# Altium footprint library Keebs.PcbLib: 219 footprints (part 5 of 14)
Each footprint in its own frame and in the unit in brackets; x right, y up, seen from the top. Pads: shape width x height; smd on the part's side, far side on the other; paste and mask are expansions set on the pad; w line width, h text height; cw(c..) or ccw(c..) is an arc to the next point about the centre after c.
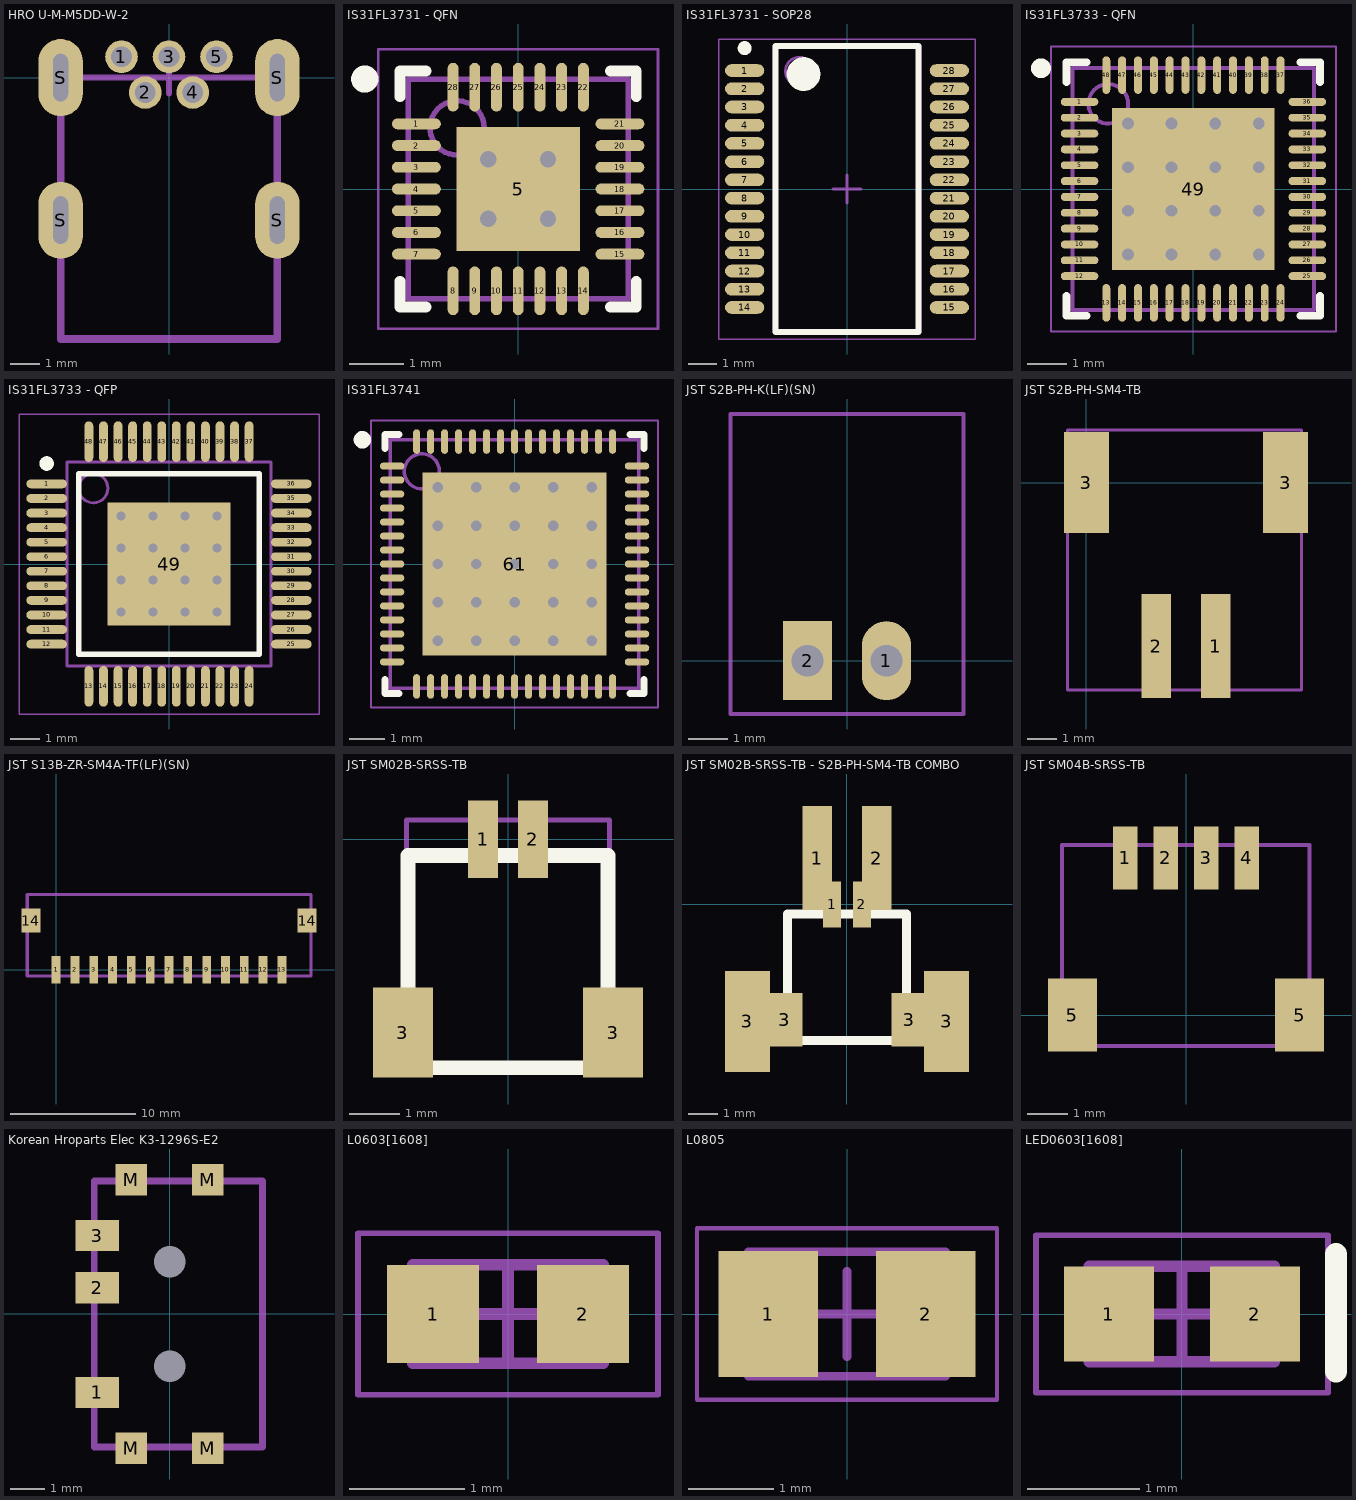
[diagram p4: the footprints below, top view; thin cyan lines are the x and y axes]

## HRO U-M-M5DD-W-2 [mm]
pads (9):
  round 1.1 hole 0.7: 1(-1.6,0.7) 2(-0.8,-0.5) 3(0,0.7) 4(0.8,-0.5) 5(1.6,0.7)
  oval 1.5x2.6 hole 0.5 slot 1.6 at 90 deg: S(-3.65,-4.8) S(-3.65,0) S(3.65,-4.8) S(3.65,0)
Mechanical 13:
  lines w0.2: -3.65,-8.8 3.65,-8.8 3.65,0 -3.65,0 -3.65,-8.8
  text ".Designator" at 1.905,-3.556 h0.35
Mechanical 15:
  lines w0.2: -0.533,0 0,0 ; 0,0.533 0,0 ; 0.533,0 0,0 ; 0,0 0,-0.533 0,0
  lines w0.254: -3.65,0 -3.65,-8.8 3.65,-8.8 3.65,0

## IS31FL3731 - QFN [mm]
height 0.8
pads (29):
  oval 0.9x0.2 smd: 1(-1.875,1.2) 2(-1.875,0.8) 3(-1.875,0.4) 4(-1.875,0) 5(-1.875,-0.4) 6(-1.875,-0.8) 7(-1.875,-1.2) 15(1.875,-1.2) 16(1.875,-0.8) 17(1.875,-0.4) 18(1.875,0) 19(1.875,0.4) 20(1.875,0.8) 21(1.875,1.2)
  rect 2.28x2.28 smd: 5(0,0)
  oval 0.2x0.9 smd: 8(-1.2,-1.875) 9(-0.8,-1.875) 10(-0.4,-1.875) 11(0,-1.875) 12(0.4,-1.875) 13(0.8,-1.875) 14(1.2,-1.875) 22(1.2,1.875) 23(0.8,1.875) 24(0.4,1.875) 25(0,1.875) 26(-0.4,1.875) 27(-0.8,1.875) 28(-1.2,1.875)
via 0.55,-0.55 diameter 0.6 hole 0.3
via -0.55,-0.55 diameter 0.6 hole 0.3
via 0.55,0.55 diameter 0.6 hole 0.3
via -0.55,0.55 diameter 0.6 hole 0.3
Top Overlay:
  circle w0.25: c-2.825,2.025 r0.125
  lines w0.2: -2.175,-1.7 -2.175,-2.175 -1.7,-2.175 ; -2.175,1.7 -2.175,2.175 -1.7,2.175 ; 1.7,-2.175 2.175,-2.175 2.175,-1.7 ; 1.7,2.175 2.175,2.175 2.175,1.7
Mechanical 13:
  circle w0.1: c-1.125,1.125 r0.5
  lines w0.1: -2.025,-2.025 2.025,-2.025 2.025,2.025 -2.025,2.025 -2.025,-2.025
  text ".Designator" at -1.905,-0.254 h0.5
Mechanical 15:
  lines w0.05: -2.575,-2.575 2.575,-2.575 2.575,2.575 -2.575,2.575 -2.575,-2.575
  lines w0.1: -0.5,0 0.5,0 ; 0,-0.5 0,0.5
3D body "IS31FL3731 - QFN.step": height 0.8, standoff 0, extent -2.026,-2.026 2.026,2.026

## IS31FL3731 - SOP28 [mm] "IS31FL3731 - SOP28"
height 1.8
pads (28):
  oval 1.4x0.45 smd: 1(-3.65,4.225) 2(-3.65,3.575) 3(-3.65,2.925) 4(-3.65,2.275) 5(-3.65,1.625) 6(-3.65,0.975) 7(-3.65,0.325) 8(-3.65,-0.325) 9(-3.65,-0.975) 10(-3.65,-1.625) 11(-3.65,-2.275) 12(-3.65,-2.925) 13(-3.65,-3.575) 14(-3.65,-4.225) 15(3.65,-4.225) 16(3.65,-3.575) 17(3.65,-2.925) 18(3.65,-2.275) 19(3.65,-1.625) 20(3.65,-0.975) 21(3.65,-0.325) 22(3.65,0.325) 23(3.65,0.975) 24(3.65,1.625) 25(3.65,2.275) 26(3.65,2.925) 27(3.65,3.575) 28(3.65,4.225)
Top Overlay:
  circle w0.25: c-3.65,5.025 r0.125
  circle w0.6: c-1.55,4.1 r0.3
  lines w0.2: -2.55,-5.1 -2.55,5.1 2.55,5.1 2.55,-5.1 -2.55,-5.1
Mechanical 13:
  circle w0.1: c-1.7,4.2 r0.5
  lines w0.1: -2.6,-5.1 -2.6,5.1 2.6,5.1 2.6,-5.1 -2.6,-5.1
  text ".Designator" at -0.254,2.159 h0.5
Mechanical 15:
  lines w0.05: -4.575,-5.35 -4.575,5.35 4.575,5.35 4.575,-5.35 -4.575,-5.35
  lines w0.1: -0.5,0 0.5,0 ; 0,-0.5 0,0.5
3D body "IS31FL3731 - SOP28.step": height 1.8, standoff 0, extent -3.9,-5.1 3.9,5.1

## IS31FL3733 - QFN [mm]
height 0.8
pads (49):
  oval 0.95x0.2 smd: 1(-2.875,2.2) 2(-2.875,1.8) 3(-2.875,1.4) 4(-2.875,1) 5(-2.875,0.6) 6(-2.875,0.2) 7(-2.875,-0.2) 8(-2.875,-0.6) 9(-2.875,-1) 10(-2.875,-1.4) 11(-2.875,-1.8) 12(-2.875,-2.2) 25(2.875,-2.2) 26(2.875,-1.8) 27(2.875,-1.4) 28(2.875,-1) 29(2.875,-0.6) 30(2.875,-0.2) 31(2.875,0.2) 32(2.875,0.6) 33(2.875,1) 34(2.875,1.4) 35(2.875,1.8) 36(2.875,2.2)
  oval 0.2x0.95 smd: 13(-2.2,-2.875) 14(-1.8,-2.875) 15(-1.4,-2.875) 16(-1,-2.875) 17(-0.6,-2.875) 18(-0.2,-2.875) 19(0.2,-2.875) 20(0.6,-2.875) 21(1,-2.875) 22(1.4,-2.875) 23(1.8,-2.875) 24(2.2,-2.875) 37(2.2,2.875) 38(1.8,2.875) 39(1.4,2.875) 40(1,2.875) 41(0.6,2.875) 42(0.2,2.875) 43(-0.2,2.875) 44(-0.6,2.875) 45(-1,2.875) 46(-1.4,2.875) 47(-1.8,2.875) 48(-2.2,2.875)
  rect 4.1x4.1 smd: 49(0,0)
via -1.65,1.65 diameter 0.6 hole 0.3
via -0.55,1.65 diameter 0.6 hole 0.3
via 0.55,1.65 diameter 0.6 hole 0.3
via 1.65,1.65 diameter 0.6 hole 0.3
via -1.65,0.55 diameter 0.6 hole 0.3
via -0.55,0.55 diameter 0.6 hole 0.3
via 0.55,0.55 diameter 0.6 hole 0.3
via 1.65,0.55 diameter 0.6 hole 0.3
via -1.65,-0.55 diameter 0.6 hole 0.3
via -0.55,-0.55 diameter 0.6 hole 0.3
via 0.55,-0.55 diameter 0.6 hole 0.3
via 1.65,-0.55 diameter 0.6 hole 0.3
via -1.65,-1.65 diameter 0.6 hole 0.3
via -0.55,-1.65 diameter 0.6 hole 0.3
via 0.55,-1.65 diameter 0.6 hole 0.3
via 1.65,-1.65 diameter 0.6 hole 0.3
Top Overlay:
  circle w0.25: c-3.85,3.05 r0.125
  lines w0.2: -3.2,-2.7 -3.2,-3.2 -2.7,-3.2 ; -3.2,2.7 -3.2,3.2 -2.7,3.2 ; 2.7,-3.2 3.2,-3.2 3.2,-2.7 ; 2.7,3.2 3.2,3.2 3.2,2.7
Mechanical 13:
  circle w0.1: c-2.15,2.15 r0.5
  lines w0.1: -3.05,-3.05 -3.05,3.05 3.05,3.05 3.05,-3.05 -3.05,-3.05
  text ".Designator" at -2.286,-0.254 h0.5
Mechanical 15:
  lines w0.05: -3.6,-3.6 -3.6,3.6 3.6,3.6 3.6,-3.6 -3.6,-3.6
  lines w0.1: -0.5,0 0.5,0 ; 0,-0.5 0,0.5
3D body "IS31FL3733 - QFN.step": height 0.8, standoff 0, extent -3.051,-3.051 3.051,3.051

## IS31FL3733 - QFP [mm]
height 1.2
pads (49):
  oval 1.4x0.3 smd: 1(-4.2,2.75) 2(-4.2,2.25) 3(-4.2,1.75) 4(-4.2,1.25) 5(-4.2,0.75) 6(-4.2,0.25) 7(-4.2,-0.25) 8(-4.2,-0.75) 9(-4.2,-1.25) 10(-4.2,-1.75) 11(-4.2,-2.25) 12(-4.2,-2.75) 25(4.2,-2.75) 26(4.2,-2.25) 27(4.2,-1.75) 28(4.2,-1.25) 29(4.2,-0.75) 30(4.2,-0.25) 31(4.2,0.25) 32(4.2,0.75) 33(4.2,1.25) 34(4.2,1.75) 35(4.2,2.25) 36(4.2,2.75)
  oval 0.3x1.4 smd: 13(-2.75,-4.2) 14(-2.25,-4.2) 15(-1.75,-4.2) 16(-1.25,-4.2) 17(-0.75,-4.2) 18(-0.25,-4.2) 19(0.25,-4.2) 20(0.75,-4.2) 21(1.25,-4.2) 22(1.75,-4.2) 23(2.25,-4.2) 24(2.75,-4.2) 37(2.75,4.2) 38(2.25,4.2) 39(1.75,4.2) 40(1.25,4.2) 41(0.75,4.2) 42(0.25,4.2) 43(-0.25,4.2) 44(-0.75,4.2) 45(-1.25,4.2) 46(-1.75,4.2) 47(-2.25,4.2) 48(-2.75,4.2)
  rect 4.21x4.21 smd: 49(0,0)
via -1.65,1.65 diameter 0.6 hole 0.3
via -0.55,1.65 diameter 0.6 hole 0.3
via 0.55,1.65 diameter 0.6 hole 0.3
via 1.65,1.65 diameter 0.6 hole 0.3
via -1.65,0.55 diameter 0.6 hole 0.3
via -0.55,0.55 diameter 0.6 hole 0.3
via 0.55,0.55 diameter 0.6 hole 0.3
via 1.65,0.55 diameter 0.6 hole 0.3
via -1.65,-0.55 diameter 0.6 hole 0.3
via -0.55,-0.55 diameter 0.6 hole 0.3
via 0.55,-0.55 diameter 0.6 hole 0.3
via 1.65,-0.55 diameter 0.6 hole 0.3
via -1.65,-1.65 diameter 0.6 hole 0.3
via -0.55,-1.65 diameter 0.6 hole 0.3
via 0.55,-1.65 diameter 0.6 hole 0.3
via 1.65,-1.65 diameter 0.6 hole 0.3
Top Overlay:
  circle w0.25: c-4.2,3.45 r0.125
  lines w0.2: -3.1,-3.1 -3.1,3.1 3.1,3.1 3.1,-3.1 -3.1,-3.1
Mechanical 13:
  circle w0.1: c-2.6,2.6 r0.5
  lines w0.1: -3.5,-3.5 -3.5,3.5 3.5,3.5 3.5,-3.5 -3.5,-3.5
  text ".Designator" at -2.667,0 h0.5
Mechanical 15:
  lines w0.05: -5.15,-5.15 -5.15,5.15 5.15,5.15 5.15,-5.15 -5.15,-5.15
  lines w0.1: -0.5,0 0.5,0 ; 0,-0.5 0,0.5
3D body "IS31FL3733 - QFP.step": height 1.2, standoff 0, extent -4.5,-4.5 4.5,4.5

## IS31FL3741 [mm]
height 0.9
pads (61):
  oval 0.7x0.2 smd: 1(-3.5,2.8) 2(-3.5,2.4) 3(-3.5,2) 4(-3.5,1.6) 5(-3.5,1.2) 6(-3.5,0.8) 7(-3.5,0.4) 8(-3.5,0) 9(-3.5,-0.4) 10(-3.5,-0.8) 11(-3.5,-1.2) 12(-3.5,-1.6) 13(-3.5,-2) 14(-3.5,-2.4) 15(-3.5,-2.8) 31(3.5,-2.8) 32(3.5,-2.4) 33(3.5,-2) 34(3.5,-1.6) 35(3.5,-1.2) 36(3.5,-0.8) 37(3.5,-0.4) 38(3.5,0) 39(3.5,0.4) 40(3.5,0.8) 41(3.5,1.2) 42(3.5,1.6) 43(3.5,2) 44(3.5,2.4) 45(3.5,2.8)
  oval 0.2x0.7 smd: 16(-2.8,-3.5) 17(-2.4,-3.5) 18(-2,-3.5) 19(-1.6,-3.5) 20(-1.2,-3.5) 21(-0.8,-3.5) 22(-0.4,-3.5) 23(0,-3.5) 24(0.4,-3.5) 25(0.8,-3.5) 26(1.2,-3.5) 27(1.6,-3.5) 28(2,-3.5) 29(2.4,-3.5) 30(2.8,-3.5) 46(2.8,3.5) 47(2.4,3.5) 48(2,3.5) 49(1.6,3.5) 50(1.2,3.5) 51(0.8,3.5) 52(0.4,3.5) 53(0,3.5) 54(-0.4,3.5) 55(-0.8,3.5) 56(-1.2,3.5) 57(-1.6,3.5) 58(-2,3.5) 59(-2.4,3.5) 60(-2.8,3.5)
  rect 5.25x5.24 smd: 61(0,0)
via -2.2,2.2 diameter 0.6 hole 0.3
via -1.1,2.2 diameter 0.6 hole 0.3
via 0,2.2 diameter 0.6 hole 0.3
via 1.1,2.2 diameter 0.6 hole 0.3
via 2.2,2.2 diameter 0.6 hole 0.3
via -2.2,1.1 diameter 0.6 hole 0.3
via -1.1,1.1 diameter 0.6 hole 0.3
via 0,1.1 diameter 0.6 hole 0.3
via 1.1,1.1 diameter 0.6 hole 0.3
via 2.2,1.1 diameter 0.6 hole 0.3
via -2.2,0 diameter 0.6 hole 0.3
via -1.1,0 diameter 0.6 hole 0.3
via 0,0 diameter 0.6 hole 0.3
via 1.1,0 diameter 0.6 hole 0.3
via 2.2,0 diameter 0.6 hole 0.3
via -2.2,-1.1 diameter 0.6 hole 0.3
via -1.1,-1.1 diameter 0.6 hole 0.3
via 0,-1.1 diameter 0.6 hole 0.3
via 1.1,-1.1 diameter 0.6 hole 0.3
via 2.2,-1.1 diameter 0.6 hole 0.3
via -2.2,-2.2 diameter 0.6 hole 0.3
via -1.1,-2.2 diameter 0.6 hole 0.3
via 0,-2.2 diameter 0.6 hole 0.3
via 1.1,-2.2 diameter 0.6 hole 0.3
via 2.2,-2.2 diameter 0.6 hole 0.3
Top Overlay:
  circle w0.25: c-4.35,3.55 r0.125
  lines w0.2: -3.7,-3.3 -3.7,-3.7 -3.3,-3.7 ; -3.7,3.3 -3.7,3.7 -3.3,3.7 ; 3.3,-3.7 3.7,-3.7 3.7,-3.3 ; 3.3,3.7 3.7,3.7 3.7,3.3
Mechanical 13:
  circle w0.1: c-2.65,2.65 r0.5
  lines w0.1: -3.55,-3.55 -3.55,3.55 3.55,3.55 3.55,-3.55 -3.55,-3.55
  text ".Designator" at -2.413,-0.127 h0.5
Mechanical 15:
  lines w0.05: -4.1,-4.1 -4.1,4.1 4.1,4.1 4.1,-4.1 -4.1,-4.1
  lines w0.1: -0.5,0 0.5,0 ; 0,-0.5 0,0.5
3D body "IS31FL3741.step": height 0.9, standoff 0, extent -3.56,-3.56 3.56,3.56

## JST S2B-PH-K(LF)(SN) [mm]
pads (2):
  oval 1.25x2 hole 0.8: 1(1,0)
  rect 1.25x2 hole 0.8: 2(-1,0)
Mechanical 13:
  lines w0.1: -2.95,-1.35 2.95,-1.35 2.95,6.25 -2.95,6.25 -2.95,-1.35
  text ".Designator" at -1.834,2.664 h0.35
3D body "S2B-PH-K-S.STEP": height 4.8, standoff -3.4, extent -2.95,-1.35 2.95,6.25

## JST S2B-PH-SM4-TB [mm]
pads (4):
  rect 1x3.5 smd: 1(4.35,-5.5) 2(2.35,-5.5)
  rect 1.5x3.4 smd: 3(0,0) 3(6.7,0)
Mechanical 13:
  lines w0.1: -0.635,-6.985 -0.635,1.778 7.239,1.778 7.239,-6.985 -0.635,-6.985
  text ".Designator" at 1.742,-2.638 h0.35
3D body "S2B-PH-SM4-TB.STEP": height 5.6, standoff 0, extent -0.648,-6.949 7.252,1.651

## JST S13B-ZR-SM4A-TF(LF)(SN) [mm]
pads (15):
  rect 0.7x2.2 smd: 1(0,0) 2(1.5,0) 3(3,0) 4(4.5,0) 5(6,0) 6(7.5,0) 7(9,0) 8(10.5,0) 9(12,0) 10(13.5,0) 11(15,0) 12(16.5,0) 13(18,0)
  rect 1.5x1.9 smd: 14(-2,3.9) 14(20,3.9)
Mechanical 13:
  lines w0.254: -2.286,-0.508 -2.286,5.969 20.32,5.969 20.32,-0.508 -2.286,-0.508
  text ".Designator" at 6.35,3.175 h0.5
3D body "S13B-ZR-SM4A-TF.STEP": height 3.7, standoff 0, extent -2.233,-0.531 20.267,5.969

## JST SM02B-SRSS-TB [mm]
pads (4):
  rect 0.6x1.55 smd: 1(-0.5,0) 2(0.5,0)
  rect 1.2x1.8 smd: 3(-2.1,-3.875) 3(2.1,-3.875)
Top Overlay:
  lines w0.3: -2,-4.575 2,-4.575 2,-0.325 -2,-0.325 -2,-4.575
Mechanical 13:
  lines w0.1: -2.032,-4.572 -2.032,0.381 2.032,0.381 2.032,-4.572 -2.032,-4.572
  text ".Designator" at -1.651,-2.286 h0.5
3D body "JST_SM02B-SRSS-TB.step": height 3, standoff 0, extent -1.994,-4.575 1.994,0.412

## JST SM02B-SRSS-TB - S2B-PH-SM4-TB COMBO [mm]
pads (8):
  rect 1x3.5 smd: 1(-1,1.563) 2(1,1.563)
  rect 0.6x1.55 smd: 1(-0.5,0) 2(0.5,0)
  rect 1.5x3.4 smd: 3(-3.35,-3.937) 3(3.35,-3.937)
  rect 1.2x1.8 smd: 3(-2.1,-3.875) 3(2.1,-3.875)
Top Overlay:
  lines w0.3: -2,-4.575 -2,-0.325 2,-0.325 2,-4.575 -2,-4.575
Mechanical 13:
  lines w0.1: -2,-4.575 2,-4.575 2,-0.325 -2,-0.325 -2,-4.575
  text ".Designator" at -1.651,-2.921 h0.5
3D body "JST_SM02B-SRSS-TB.step": height 3, standoff 0, extent -1.994,-4.575 1.994,0.412

## JST SM04B-SRSS-TB [mm]
pads (6):
  rect 0.6x1.55 smd: 1(-1.5,3.875) 2(-0.5,3.875) 3(0.5,3.875) 4(1.5,3.875)
  rect 1.2x1.8 smd: 5(-2.8,0) 5(2.8,0)
Mechanical 13:
  lines w0.1: -3.054,-0.762 3.042,-0.762 3.042,4.191 -3.054,4.191 -3.054,-0.762
  text ".Designator" at -2.673,1.524 h0.7
3D body "SM04B-SRSS-TB.STEP": height 2.96, standoff 0, extent -3.006,-0.762 2.994,4.188

## Korean Hroparts Elec K3-1296S-E2 [mm]
pads (9):
  rect 1.25x0.9 smd: 1(-2.075,-2.25) 2(-2.075,0.75) 3(-2.075,2.25)
  rect 0.9x0.9 smd: M(-1.1,-3.85) M(-1.1,3.85) M(1.1,-3.85) M(1.1,3.85)
  round 0 hole 0.9 unplated: ""(0,-1.5) ""(0,1.5)
Mechanical 13:
  lines w0.2: -2.159,-3.81 -2.159,3.81 2.667,3.81 2.667,-3.81 -2.159,-3.81
  text ".Designator" at 0.889,2.159 h0.5
3D body "EG1215AA.stp": height 1.45, standoff -0.45, extent -2.2,-3.85 2.7,3.85

## L0603[1608] [mm] "Chip Resistor, 2-Leads, Body 1,57x0,80mm, IPC Medium Density"
height 0.5
pads (2):
  rect 0.8x0.85 smd: 1(-0.65,0) 2(0.65,0)
Mechanical 13:
  lines w0.1: -0.825,-0.425 -0.825,0.425 0.825,0.425 0.825,-0.425 -0.825,-0.425
  text ".Designator" at -1.05,-0.275 h0.35
Mechanical 15:
  lines w0.05: -1.3,-0.7 -1.3,0.7 1.3,0.7 1.3,-0.7 -1.3,-0.7
  lines w0.1: -0.425,0 0.425,0 ; 0,-0.425 0,0.425
3D body: height 0.5, standoff 0, extent -0.825,-0.425 -0.525,0.425
3D body: height 0.5, standoff 0, extent 0.525,-0.425 0.825,0.425
3D body: height 0.5, standoff 0, extent -0.525,-0.425 0.525,0.425

## L0805 [mm] "based on Sunlord-GZ2012D101TF_C1015 datasheet"
height 1.02
pads (2):
  rect 1.16x1.47 smd: 1(-0.92,0) 2(0.92,0)
Mechanical 13:
  lines w0.1: -1.15,-0.725 -1.15,0.725 1.15,0.725 1.15,-0.725 -1.15,-0.725
  text ".Designator" at -0.796,-0.199 h0.35
Mechanical 15:
  lines w0.05: -1.75,-1 -1.75,1 1.75,1 1.75,-1 -1.75,-1
  lines w0.1: -0.5,0 0.5,0 ; 0,-0.5 0,0.5
3D body "L0805.step": height 1.02, standoff 0, extent -1.15,-0.725 1.15,0.725

## LED0603[1608] [mm] "Chip Resistor, 2-Leads, Body 1,57x0,80mm, IPC Medium Density"
height 0.5
pads (2):
  rect 0.8x0.85 smd: 1(-0.65,0) 2(0.65,0)
Top Overlay:
  lines w0.2: 1.372,-0.508 1.372,0.533
Mechanical 13:
  lines w0.1: -0.825,-0.425 -0.825,0.425 0.825,0.425 0.825,-0.425 -0.825,-0.425
  text ".Designator" at -1.05,-0.275 h0.35
Mechanical 15:
  lines w0.05: -1.3,-0.7 -1.3,0.7 1.3,0.7 1.3,-0.7 -1.3,-0.7
  lines w0.1: -0.425,0 0.425,0 ; 0,-0.425 0,0.425
3D body "0603 Chip SMD LED (1.6x0.8mm).STEP": height 0.8, standoff 0, extent -0.774,-0.4 0.826,0.4